# EAGLE library part MM80C97N (library User-Submitted)
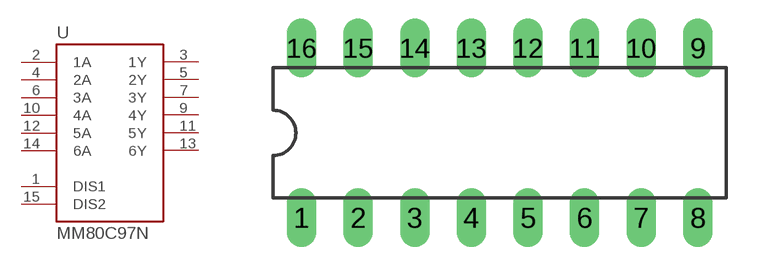
[diagram p17: symbol with the pads of DIL16; footprint DIL16]

Designator prefix -

## MM80C97N  [DIL16]
1  DIS1  in
2  1A  in
3  1Y  hiz
4  2A  in
5  2Y  hiz
6  3A  in
7  3Y  hiz
9  4Y  hiz
10  4A  in
11  5Y  hiz
12  5A  in
13  6Y  hiz
14  6A  in
15  DIS2  in

## Footprint DIL16 (pad centres in mm)
Dual In Line Package
drill 0.813 long: 1 -8.89,-3.81; 2 -6.35,-3.81; 3 -3.81,-3.81; 4 -1.27,-3.81; 5 1.27,-3.81; 6 3.81,-3.81; 7 6.35,-3.81; 8 8.89,-3.81; 9 8.89,3.81; 10 6.35,3.81; 11 3.81,3.81; 12 1.27,3.81; 13 -1.27,3.81; 14 -3.81,3.81; 15 -6.35,3.81; 16 -8.89,3.81